# EAGLE library part 4608X-102-104LF (library 4608X-102-104LF)
Bourns Isolated Resistor Array 100k +/-2% 4 Resistors, 1W Total, SIP Package 4600X Through Hole Source: Datasheet <http://uk.rs-online.com/web/p/products/5223826P>
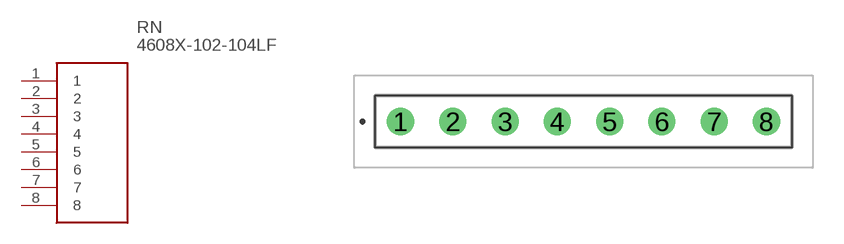
[diagram p0: symbol with the pads of 4608X102104LF; footprint 4608X102104LF]

Designator prefix RN

## 4608X-102-104LF (Description: Bourns Isolated Resistor Array 100k +/-2% 4 Resistors, 1W Total, SIP Package 4600X Through Hole; Height: 5.08mm; Manufacturer_Name: Bourns; Manufacturer_Part_Number: 4608X-102-104LF; RS_Part_Number: 5223826P; RS_Price-Stock: http://uk.rs-online.com/web/p/products/5223826P)  [4608X102104LF]
1  1
2  2
3  3
4  4
5  5
6  6
7  7
8  8

## Footprint 4608X102104LF (pad centres in mm)
4608X-102-104LF-2
drill 0.77 pad 1.32: 1 0,0; 2 2.54,0; 3 5.08,0; 4 7.62,0; 5 10.16,0; 6 12.7,0; 7 15.24,0; 8 17.78,0